# Altium footprint library resistencias_smd.PCBLIB: 183 footprints (part 10 of 12)
Each footprint in its own frame and in the unit in brackets; x right, y up, seen from the top. Pads: shape width x height; smd on the part's side, far side on the other; paste and mask are expansions set on the pad; w line width, h text height; cw(c..) or ccw(c..) is an arc to the next point about the centre after c.
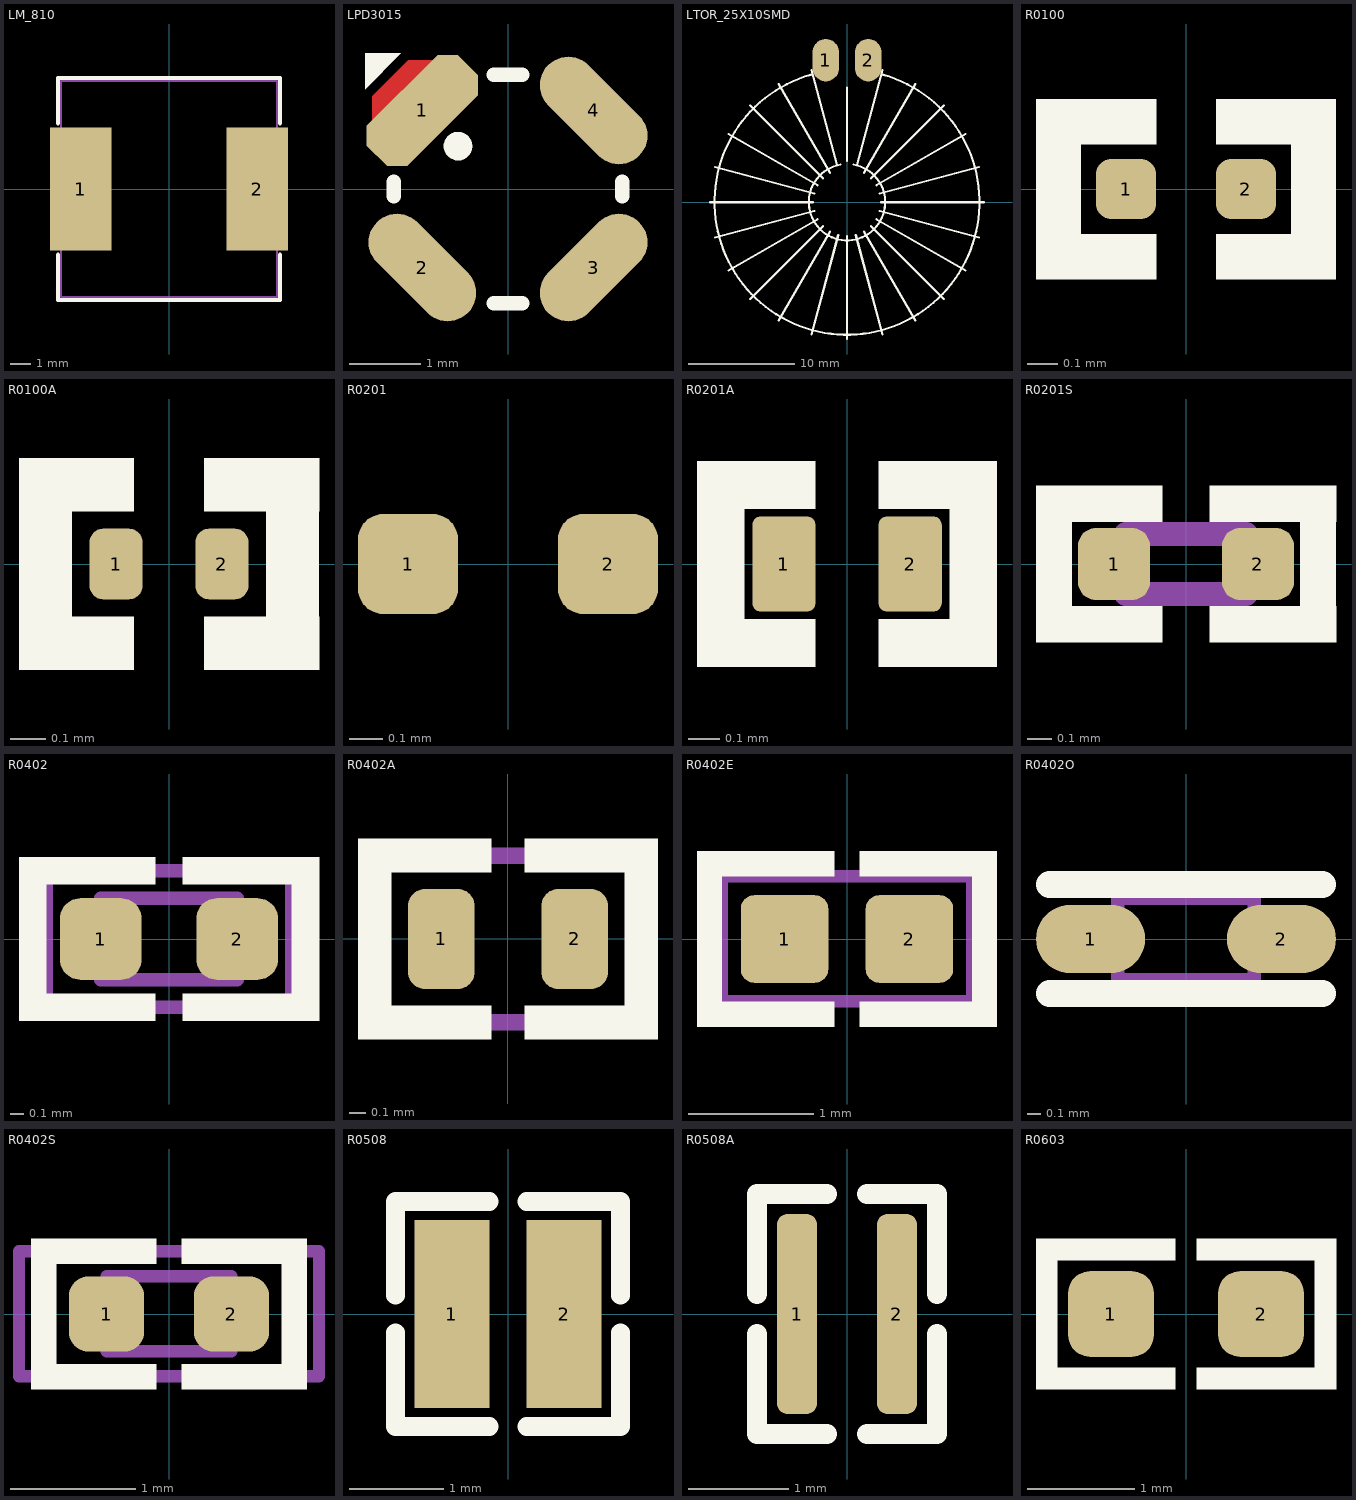
[diagram p9: the footprints below, top view; thin cyan lines are the x and y axes]

## LM_810 [mm] "INDUCTOR, multi size, FROM 8X8 TO 10X10"
height 4
pads (2):
  rect 3x6 smd: 1(-4.3,0) 2(4.3,0)
Top Overlay:
  lines w0.2: -5.4,-3.2 -5.4,-5.4 5.4,-5.4 5.4,-3.2 ; -5.4,3.2 -5.4,5.4 5.4,5.4 5.4,3.2
Mechanical 13:
  lines w0.1: -5.25,-5.25 5.25,-5.25 5.25,5.25 -5.25,5.25 -5.25,-5.25
3D body "User Library-10x10 SMT Power Inductor.step": height 4.8, standoff 0, extent -5.2,-5.2 5.2,5.2

## LPD3015 [mm] "INDUCTOR, coupled, 3X3X1.5mm"
height 1.4
pads (4):
  oct 0.8x1.8 smd rot 135: 1(-1.2,1.1)
  oval 0.8x1.8 smd rot 45: 2(-1.2,-1.1) 4(1.2,1.1)
  oval 0.8x1.8 smd rot 135: 3(1.2,-1.1)
Top Layer:
  region: -0.9,1.8 -1.4,1.8 -1.9,1.3 -1.9,0.8
Top Overlay:
  circle w0.2: c-0.7,0.6 r0.1
  region: -2,1.4 -2,1.9 -1.5,1.9
  lines w0.2: -1.6,-0.1 -1.6,0.1 ; -0.2,-1.6 0.2,-1.6 ; -0.2,1.6 0.2,1.6 ; 1.6,-0.1 1.6,0.1
3D body "Coilcraft-LPD3015.step": height 1.5, standoff 0, extent -1.54,-1.54 1.54,1.54

## LTOR_25X10SMD [mm] "INDUCTOR, TORIOD, 25.0X10.0mm BENDED"
pads (2):
  oval 2.5x4 smd: 1(-2,13.4) 2(2,13.4)
Top Overlay:
  lines w0.2: -12.9,0 -3.2,0 ; -12.46,-3.339 -3.091,-0.828 ; -12.46,3.339 -3.091,0.828 ; -11.172,-6.45 -2.771,-1.6 ; -11.172,6.45 -2.771,1.6 ; -9.122,-9.122 -2.263,-2.263 ; -9.122,9.122 -2.263,2.263 ; -6.45,-11.172 -1.6,-2.771 ; -6.45,11.172 -1.6,2.771 ; -3.408,12.027 ccw(c0,0) 3.408,12.027 ; -3.339,-12.46 -0.828,-3.091 ; -3.339,12.46 -0.942,3.516 ; -0.625,3.545 ccw(c0,0) 0.625,3.545 ; 0,-12.9 0,-3.2 ; 0,3.9 0,10.8 ; 0.828,-3.091 3.339,-12.46 ; 0.942,3.516 3.339,12.46 ; 1.6,-2.771 6.45,-11.172 ; 1.6,2.771 6.45,11.172 ; 2.263,-2.263 9.122,-9.122 ; 2.263,2.263 9.122,9.122 ; 2.771,-1.6 11.172,-6.45 ; 2.771,1.6 11.172,6.45 ; 3.091,-0.828 12.46,-3.339 ; 3.091,0.828 12.46,3.339 ; 3.2,0 12.9,0
3D body "User Library-5701-RC.STEP": height 11.26, standoff -0.06, extent -11.21,-11.235 11.21,23.8

## R0100 [mm] "CHIP Resistor, 0.4x0.2mm, 0100"
pads (2):
  rrect50% 0.2x0.2 smd mask+0.05: 1(-0.2,0) 2(0.2,0)
Top Overlay:
  region: -0.5,0.15 -0.1,0.15 -0.1,0.3 -0.5,0.3
  region: -0.5,-0.15 -0.1,-0.15 -0.1,-0.3 -0.5,-0.3
  region: 0.5,-0.15 0.1,-0.15 0.1,-0.3 0.5,-0.3
  region: 0.5,0.15 0.1,0.15 0.1,0.3 0.5,0.3
  lines w0.15: -0.425,-0.225 -0.425,0.225 ; 0.425,-0.225 0.425,0.225
3D body: height 0.13, standoff 0, extent -0.2,-0.1 -0.1,0.1
3D body: height 0.13, standoff 0, extent -0.1,-0.1 0.1,0.1
3D body: height 0.13, standoff 0, extent 0.1,-0.1 0.2,0.1

## R0100A [mm] "CHIP Resistor, 0.4x0.2mm, for PCBA"
height 0.13
pads (2):
  rrect50% 0.15x0.2 smd mask+0.05: 1(-0.15,0) 2(0.15,0)
Top Overlay:
  region: 0.425,-0.15 0.1,-0.15 0.1,-0.3 0.425,-0.3
  region: 0.425,0.15 0.1,0.15 0.1,0.3 0.425,0.3
  region: -0.425,0.15 -0.1,0.15 -0.1,0.3 -0.425,0.3
  region: -0.425,-0.15 -0.1,-0.15 -0.1,-0.3 -0.425,-0.3
  lines w0.15: -0.35,-0.225 -0.35,0.225 ; 0.35,-0.225 0.35,0.225
3D body: height 0.13, standoff 0, extent -0.2,-0.1 -0.1,0.1
3D body: height 0.13, standoff 0, extent -0.1,-0.1 0.1,0.1
3D body: height 0.13, standoff 0, extent 0.1,-0.1 0.2,0.1

## R0201 [mm] "CHIP Resistor, 0.5x0.25mm, 0201"
pads (2):
  rrect50% 0.3x0.3 smd mask+0.05: 1(-0.3,0) 2(0.3,0)
3D body "r0201_Res.step": height 0.31, standoff 0, extent -0.44,-0.15 0.44,0.15

## R0201A [mm] "CHIP Resistor, 0.5x0.25mm, for PCBA"
pads (2):
  rrect25% 0.2x0.3 smd mask+0.05: 1(-0.2,0) 2(0.2,0)
Top Overlay:
  region: 0.475,0.175 0.1,0.175 0.1,0.325 0.475,0.325
  region: 0.475,-0.175 0.1,-0.175 0.1,-0.325 0.475,-0.325
  region: -0.475,-0.175 -0.1,-0.175 -0.1,-0.325 -0.475,-0.325
  region: -0.475,0.175 -0.1,0.175 -0.1,0.325 -0.475,0.325
  lines w0.15: -0.4,-0.25 -0.4,0.25 ; 0.4,-0.25 0.4,0.25
3D body: height 0.2, standoff 0, extent 0.15,-0.15 0.3,0.15
3D body: height 0.2, standoff 0, extent -0.15,-0.15 0.15,0.15
3D body: height 0.2, standoff 0, extent -0.3,-0.15 -0.15,0.15

## R0201S [mm] "CHIP Resistor, 0.5x0.25mm, 0201, soldered"
pads (2):
  rrect50% 0.3x0.3 smd mask+0.05: 1(-0.3,0) 2(0.3,0)
Top Overlay:
  region: -0.625,-0.175 -0.1,-0.175 -0.1,-0.325 -0.625,-0.325
  region: 0.625,-0.175 0.1,-0.175 0.1,-0.325 0.625,-0.325
  region: 0.625,0.175 0.1,0.175 0.1,0.325 0.625,0.325
  region: -0.625,0.175 -0.1,0.175 -0.1,0.325 -0.625,0.325
  lines w0.15: -0.55,-0.25 -0.55,0.25 ; 0.55,-0.25 0.55,0.25
Mechanical 13:
  lines w0.1: -0.25,-0.125 -0.25,0.125 0.25,0.125 0.25,-0.125 -0.25,-0.125
3D body "r0201_Res.step": height 0.31, standoff 0, extent -0.44,-0.15 0.44,0.15

## R0402 [mm] "CHIP Resistor, 1.0X0.5mm, 0402"
height 0.4
pads (2):
  rrect50% 0.6x0.6 smd mask+0.075: 1(-0.5,0) 2(0.5,0)
Top Overlay:
  region: 0.1,-0.4 0.1,-0.6 1.1,-0.6 1.1,-0.4
  region: 0.1,0.4 0.1,0.6 1.1,0.6 1.1,0.4
  region: 1.1,0.6 0.9,0.6 0.9,-0.6 1.1,-0.6
  region: -1.1,0.6 -0.9,0.6 -0.9,-0.6 -1.1,-0.6
  region: -0.1,0.4 -0.1,0.6 -1.1,0.6 -1.1,0.4
  region: -0.1,-0.4 -0.1,-0.6 -1.1,-0.6 -1.1,-0.4
Mechanical 13:
  lines w0.1: -0.5,-0.3 -0.5,0.3 0.5,0.3 0.5,-0.3 -0.5,-0.3
Mechanical 15:
  lines w0.1: -0.9,-0.5 -0.9,0.5 0.9,0.5 0.9,-0.5 -0.9,-0.5
3D body "User Library-RES_1005-0402.step": height 0.41, standoff 0, extent -0.575,-0.275 0.575,0.275

## R0402A [mm] "CHIP Resistor, 1.0X0.5mm, 0402, for PCBA"
height 0.4
pads (2):
  rrect50% 0.4x0.6 smd mask+0.075: 1(-0.4,0) 2(0.4,0)
Top Overlay:
  region: 0.1,-0.4 0.1,-0.6 0.9,-0.6 0.9,-0.4
  region: 0.1,0.4 0.1,0.6 0.9,0.6 0.9,0.4
  region: 0.9,0.6 0.7,0.6 0.7,-0.6 0.9,-0.6
  region: -0.9,0.6 -0.7,0.6 -0.7,-0.6 -0.9,-0.6
  region: -0.1,0.4 -0.1,0.6 -0.9,0.6 -0.9,0.4
  region: -0.1,-0.4 -0.1,-0.6 -0.9,-0.6 -0.9,-0.4
Mechanical 15:
  lines w0.1: -0.8,-0.5 0.8,-0.5 0.8,0.5 -0.8,0.5 -0.8,-0.5
3D body "User Library-RES_1005-0402.step": height 0.41, standoff 0, extent -0.575,-0.275 0.575,0.275

## R0402E [mm] "CHIP Resistor 1/16 WATT, 1.0X0.5mm, EXPANDED PAD"
height 0.4
pads (2):
  rrect30% 0.7x0.7 smd mask+0.075: 1(-0.5,0) 2(0.5,0)
Top Overlay:
  region: 1.2,0.7 1,0.7 1,-0.7 1.2,-0.7
  region: 0.1,0.5 0.1,0.7 1.2,0.7 1.2,0.5
  region: 0.1,-0.5 0.1,-0.7 1.2,-0.7 1.2,-0.5
  region: -0.1,-0.5 -0.1,-0.7 -1.2,-0.7 -1.2,-0.5
  region: -0.1,0.5 -0.1,0.7 -1.2,0.7 -1.2,0.5
  region: -1.2,0.7 -1,0.7 -1,-0.7 -1.2,-0.7
Mechanical 15:
  lines w0.1: -1,-0.5 1,-0.5 1,0.5 -1,0.5 -1,-0.5
3D body "User Library-RES_1005-0402.step": height 0.41, standoff 0, extent -0.575,-0.275 0.575,0.275

## R0402O [mm] "0402 Optimized for place close together"
pads (2):
  oval 0.8x0.5 smd mask+0.075: 1(-0.7,0) 2(0.7,0)
Top Overlay:
  lines w0.2: -1,-0.4 1,-0.4 ; -1,0.4 1,0.4
Mechanical 13:
  lines w0.1: -0.5,-0.3 0.5,-0.3 0.5,0.3 -0.5,0.3 -0.5,-0.3
3D body "User Library-RES_1005-0402.step": height 0.41, standoff 0, extent -0.575,-0.275 0.575,0.275

## R0402S [mm] "CHIP Resistor 1/16 WATT, 1.0X0.5mm, 0402, 1005, soldered"
height 0.4
pads (2):
  rrect50% 0.6x0.6 smd mask+0.075: 1(-0.5,0) 2(0.5,0)
Top Overlay:
  region: 0.1,-0.4 0.1,-0.6 1.1,-0.6 1.1,-0.4
  region: 0.1,0.4 0.1,0.6 1.1,0.6 1.1,0.4
  region: 1.1,0.6 0.9,0.6 0.9,-0.6 1.1,-0.6
  region: -1.1,0.6 -0.9,0.6 -0.9,-0.6 -1.1,-0.6
  region: -0.1,0.4 -0.1,0.6 -1.1,0.6 -1.1,0.4
  region: -0.1,-0.4 -0.1,-0.6 -1.1,-0.6 -1.1,-0.4
Mechanical 13:
  lines w0.1: -0.5,-0.3 -0.5,0.3 0.5,0.3 0.5,-0.3 -0.5,-0.3
Mechanical 15:
  lines w0.1: -1.2,-0.5 1.2,-0.5 1.2,0.5 -1.2,0.5 -1.2,-0.5
3D body "r0402_Res1.step": height 0.51, standoff 0, extent -0.73,-0.25 0.73,0.25

## R0508 [mm] "CHIP Resistor, 1.3X2.0mm, 0508"
pads (2):
  rect 0.8x2 smd: 1(-0.6,0) 2(0.6,0)
Top Overlay:
  lines w0.2: -1.2,-0.2 -1.2,-1.2 -0.2,-1.2 ; -1.2,0.2 -1.2,1.2 -0.2,1.2 ; 0.2,-1.2 1.2,-1.2 1.2,-0.2 ; 0.2,1.2 1.2,1.2 1.2,0.2
3D body "User Library-RESC1220X07N.STEP": height 0.7, standoff 0, extent -0.675,-1.05 0.675,1.05

## R0508A [mm] "CHIP Resistor, 1.3X2.0mm, 0508"
pads (2):
  rrect50% 0.4x2 smd: 1(-0.5,0) 2(0.5,0)
Top Overlay:
  lines w0.2: -0.9,-0.2 -0.9,-1.2 -0.2,-1.2 ; -0.9,0.2 -0.9,1.2 -0.2,1.2 ; 0.2,-1.2 0.9,-1.2 0.9,-0.2 ; 0.2,1.2 0.9,1.2 0.9,0.2
3D body "User Library-RESC1220X07N.STEP": height 0.7, standoff 0, extent -0.675,-1.05 0.675,1.05

## R0603 [mm] "CHIP Resistor 1/10 WATT, 1.6x0.8mm, 0603, OPTIMIZED"
height 0.6
pads (2):
  rrect50% 0.8x0.8 smd mask+0.075: 1(-0.7,0) 2(0.7,0)
Top Overlay:
  region: 0.1,-0.5 0.1,-0.7 1.4,-0.7 1.4,-0.5
  region: 0.1,0.5 0.1,0.7 1.4,0.7 1.4,0.5
  region: 1.4,0.7 1.2,0.7 1.2,-0.7 1.4,-0.7
  region: -1.4,0.7 -1.2,0.7 -1.2,-0.7 -1.4,-0.7
  region: -0.1,0.5 -0.1,0.7 -1.4,0.7 -1.4,0.5
  region: -0.1,-0.5 -0.1,-0.7 -1.4,-0.7 -1.4,-0.5
3D body "User Library-RES_1609-0603.step": height 0.56, standoff 0, extent -0.85,-0.4 0.85,0.4